# EAGLE library part MIC37102 (library omcPwrSupply)
Microchip - MIC37102 - 1A Low-Voltage µCap LDO Regulator Fixed and Adjustable Output Voltages to 1.24V 280 mV Typical Dropout at 1A Vin +2.25V to +6V 1% Initial Accuracy Current Limiting and Thermal Shutdown Reversed Leakage Protection 1A Minimum Guaranteed Output Current Microchip Datasheet <https://ww1.microchip.com/downloads/aemDocuments/documents/OTH/ProductDocuments/DataSheets/MIC37100-01-02-1A-Low-Voltage-Cap-LDO-Regulator-DS20006104A.pdf> Reichelt Datasheet <https://cdn-reichelt.de/documents/datenblatt/A300/MIC37100-01-02_DB-EN.pdf>
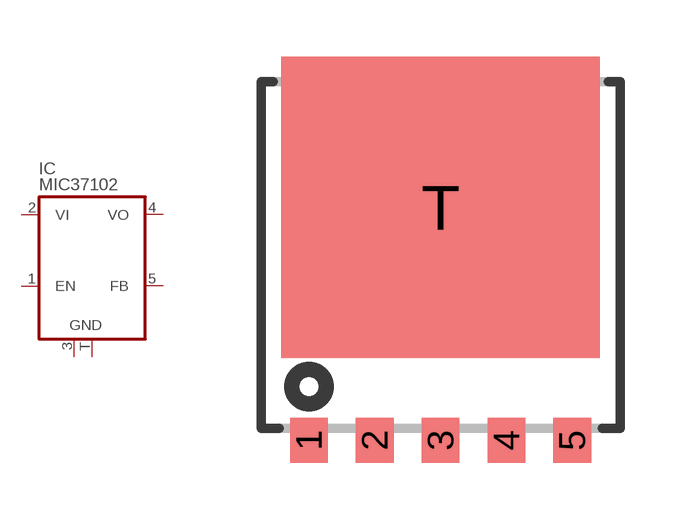
[diagram p12: symbol with the pads of SPAK-5; footprint SPAK-5]

Designator prefix IC

## MIC37102 (#VENDOR: Michrochip,MIC37102WR; DIST#REICHELT#: MIC37102WR; VALUE: MIC37102)  [SPAK-5]
1  EN  pas
2  VI  in
3  GND  pwr
4  VO  pwr
5  FB  pas
T  GND  pwr

## Footprint SPAK-5 (pad centres in mm)
SPAK-5 SPAK5 SMD 9.52mm×10.67mm
smd 1 x 1.2: 1 1.27,0.635; 2 3.016,0.635; 3 4.763,0.635; 4 6.509,0.635; 5 8.255,0.635
smd 8.45 x 8: T 4.763,6.826